# EAGLE library part TMC239 (library _TMC)
TMC239 Stepper Motor Driver - up to 4A, w. protection and diagnostics
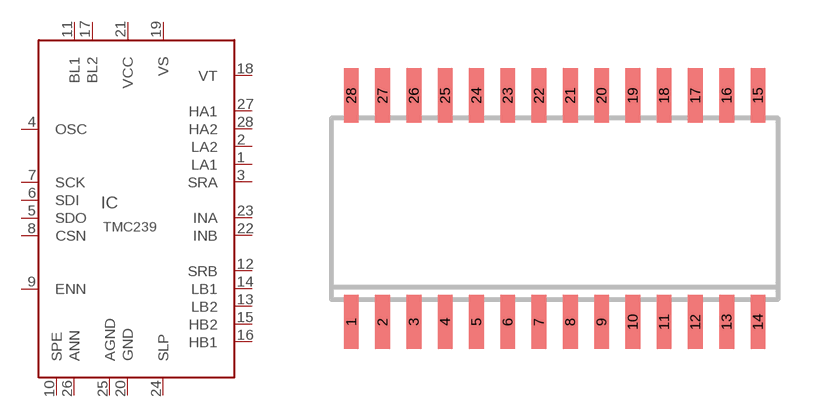
[diagram p2: symbol with the pads of SO28W; footprint SO28W]

Designator prefix IC

## TMC239  [SO28W]
1  LA1
2  LA2
3  SRA
4  OSC
5  SDO
6  SDI
7  SCK
8  CSN
9  ENN
10  SPE
11  BL1
12  SRB
13  LB2
14  LB1
15  HB2
16  HB1
17  BL2
18  VT
19  VS
20  GND  pwr
21  VCC  pwr
22  INB
23  INA
24  SLP
25  AGND
26  ANN
27  HA1
28  HA2

## Footprint SO28W (pad centres in mm)
SMALL OUTLINE INTEGRATED CIRCUIT wide body 7.5 mm/JEDEC MO-119AB
smd 0.6 x 2.2: 1 -8.255,-4.6; 2 -6.985,-4.6; 3 -5.715,-4.6; 4 -4.445,-4.6; 5 -3.175,-4.6; 6 -1.905,-4.6; 7 -0.635,-4.6; 8 0.635,-4.6; 9 1.905,-4.6; 10 3.175,-4.6; 11 4.445,-4.6; 12 5.715,-4.6; 13 6.985,-4.6; 14 8.255,-4.6; 15 8.255,4.6; 16 6.985,4.6; 17 5.715,4.6; 18 4.445,4.6; 19 3.175,4.6; 20 1.905,4.6; 21 0.635,4.6; 22 -0.635,4.6; 23 -1.905,4.6; 24 -3.175,4.6; 25 -4.445,4.6; 26 -5.715,4.6; 27 -6.985,4.6; 28 -8.255,4.6